# EAGLE library part ESP_8266 (library EE445L)
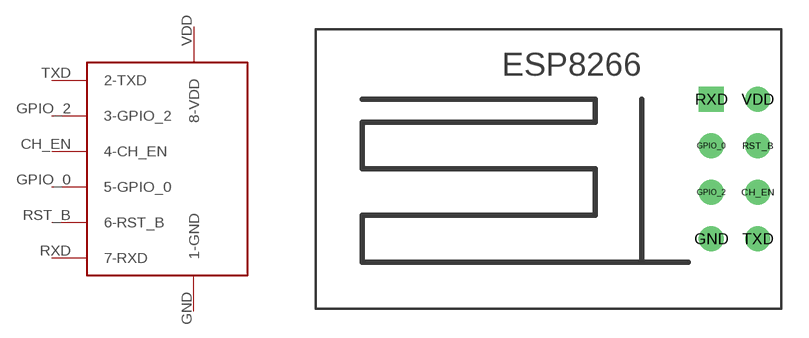
[diagram p27: symbol with the pads of ESP8266; footprint ESP8266]

Designator prefix -

## ESP_8266  [ESP8266]
CH_EN  4-CH_EN
GND  1-GND
GPIO_0  5-GPIO_0
GPIO_2  3-GPIO_2
RST_B  6-RST_B
RXD  7-RXD
TXD  2-TXD
VDD  8-VDD

## Footprint ESP8266 (pad centres in mm)
drill 0.85: CH_EN 1.27,-1.27; GND -1.27,-3.81; GPIO_0 -1.27,1.27; GPIO_2 -1.27,-1.27; RST_B 1.27,1.27; TXD 1.27,-3.81; VDD 1.27,3.81
drill 0.85 square: RXD -1.27,3.81